# Altium footprint library Connector_PinHeader_1.27mm.PcbLib: 278 footprints (part 3 of 18)
Each footprint in its own frame and in the unit in brackets; x right, y up, seen from the top. Pads: shape width x height; smd on the part's side, far side on the other; paste and mask are expansions set on the pad; w line width, h text height; cw(c..) or ccw(c..) is an arc to the next point about the centre after c.
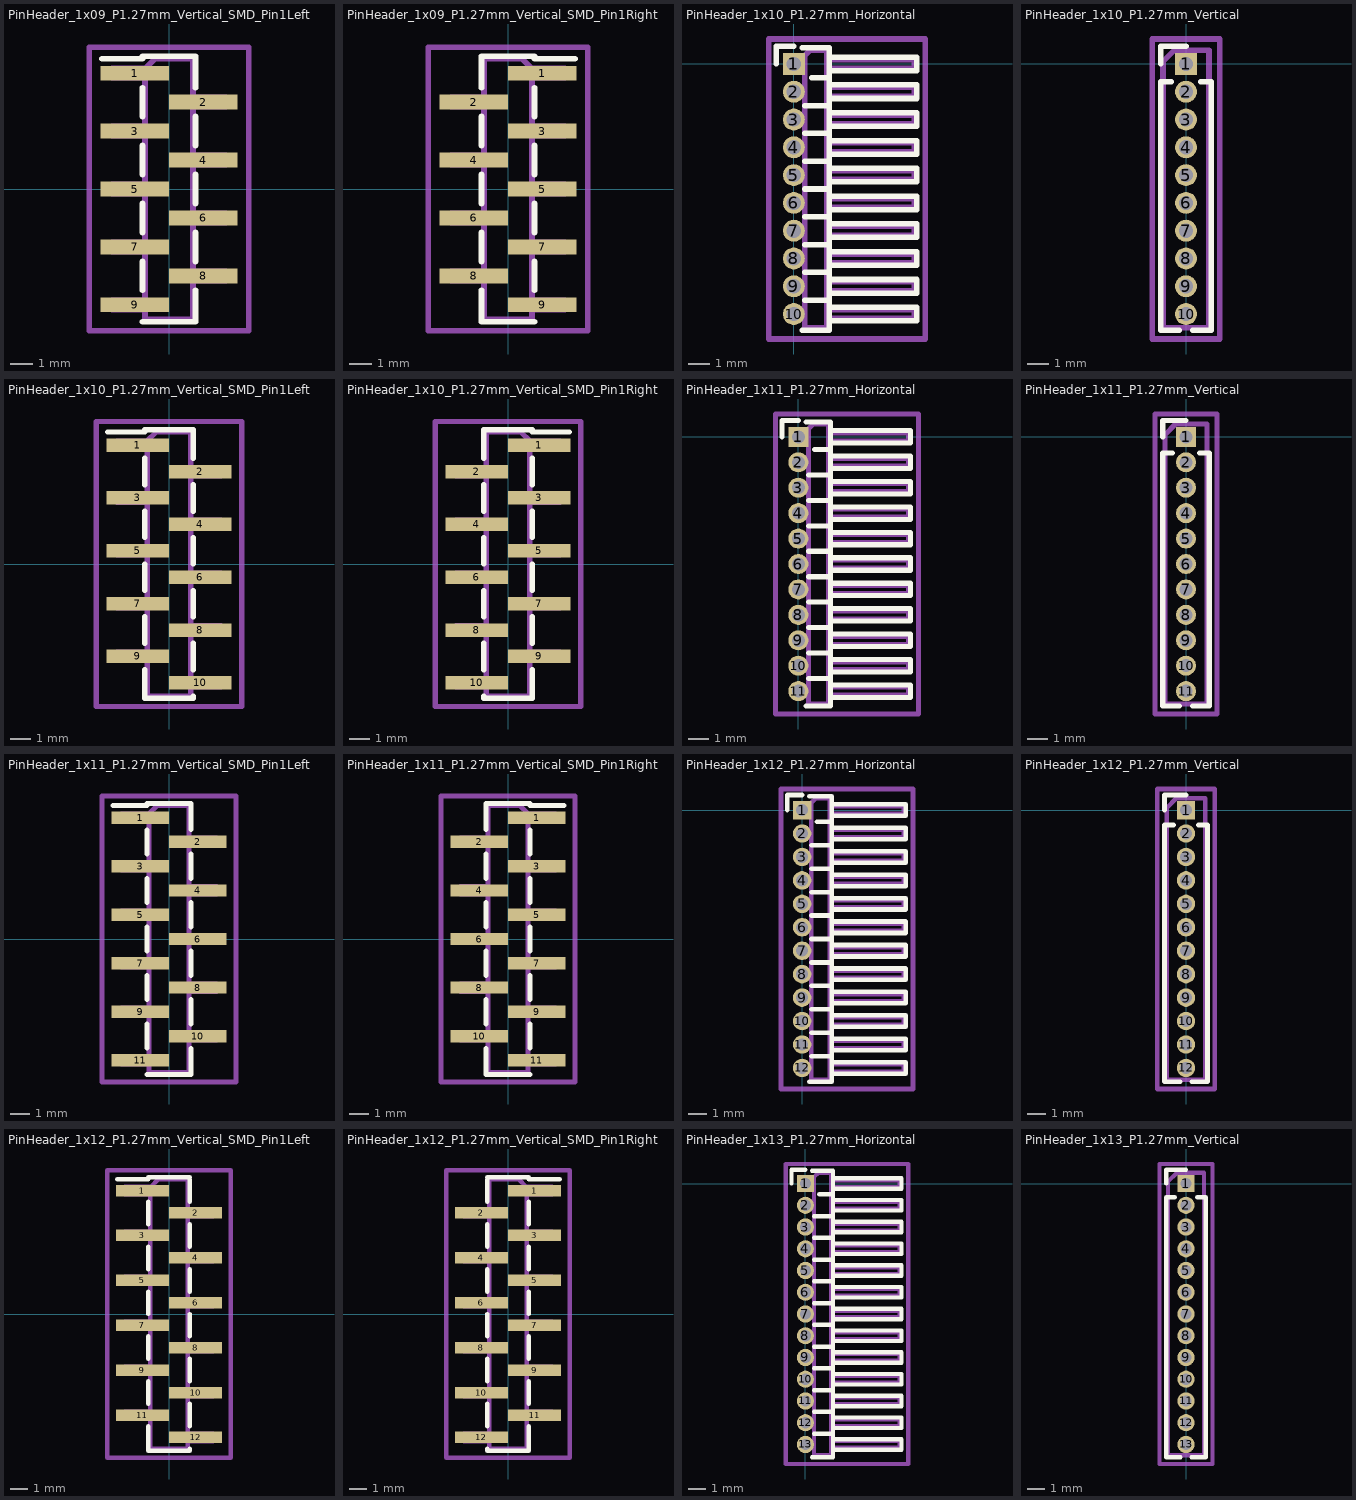
[diagram p2: the footprints below, top view; thin cyan lines are the x and y axes]

## PinHeader_1x09_P1.27mm_Vertical_SMD_Pin1Left [mm]
pads (9):
  rect 3x0.65 smd: 1(-1.5,5.08) 2(1.5,3.81) 3(-1.5,2.54) 4(1.5,1.27) 5(-1.5,0) 6(1.5,-1.27) 7(-1.5,-2.54) 8(1.5,-3.81) 9(-1.5,-5.08)
F.SilkS:
  lines w0.254: -2.94,5.715 -1.16,5.715 -1.16,5.825 1.16,5.825 ; -1.16,-5.825 1.16,-5.825 ; -1.16,-4.445 -1.16,-3.175 ; -1.16,-1.905 -1.16,-0.635 ; -1.16,0.635 -1.16,1.905 ; -1.16,3.175 -1.16,4.445 ; 1.16,-5.715 1.16,-5.825 ; 1.16,-4.445 1.16,-5.825 ; 1.16,-3.175 1.16,-1.905 ; 1.16,-0.635 1.16,0.635 ; 1.16,1.905 1.16,3.175 ; 1.16,4.445 1.16,5.715
Top Assembly:
  lines w0.254: -1.05,-5.28 -2.5,-5.28 -2.5,-4.88 -1.05,-4.88 ; -1.05,-2.74 -2.5,-2.74 -2.5,-2.34 -1.05,-2.34 ; -1.05,-0.2 -2.5,-0.2 -2.5,0.2 -1.05,0.2 ; -1.05,2.34 -2.5,2.34 -2.5,2.74 -1.05,2.74 ; -1.05,4.88 -2.5,4.88 -2.5,5.28 -1.05,5.28 ; 1.05,-4.01 2.5,-4.01 2.5,-3.61 1.05,-3.61 ; 1.05,-1.47 2.5,-1.47 2.5,-1.07 1.05,-1.07 ; 1.05,1.07 2.5,1.07 2.5,1.47 1.05,1.47 ; 1.05,3.61 2.5,3.61 2.5,4.01 1.05,4.01 ; -1.05,5.28 -1.05,-5.715 1.05,-5.715 1.05,5.715 -0.615,5.715 -1.05,5.28
  text "'.Designator'" at 0.84,-4.047 h1
Top Courtyard:
  lines w0.254: -3.5,-6.22 3.5,-6.22 3.5,6.22 -3.5,6.22 -3.5,-6.22
Top Designator:
  text ".Designator" at -7.618,-0.508 h1.52

## PinHeader_1x09_P1.27mm_Vertical_SMD_Pin1Right [mm]
pads (9):
  rect 3x0.65 smd: 1(1.5,5.08) 2(-1.5,3.81) 3(1.5,2.54) 4(-1.5,1.27) 5(1.5,0) 6(-1.5,-1.27) 7(1.5,-2.54) 8(-1.5,-3.81) 9(1.5,-5.08)
F.SilkS:
  lines w0.254: -1.16,-5.715 -1.16,-5.825 ; -1.16,-4.445 -1.16,-5.825 ; -1.16,-3.175 -1.16,-1.905 ; -1.16,-0.635 -1.16,0.635 ; -1.16,1.905 -1.16,3.175 ; -1.16,5.825 1.16,5.825 1.16,5.715 2.94,5.715 ; 1.16,-5.825 -1.16,-5.825 ; 1.16,-4.445 1.16,-3.175 ; 1.16,-1.905 1.16,-0.635 ; 1.16,0.635 1.16,1.905 ; 1.16,3.175 1.16,4.445 ; -1.16,4.445 -1.16,5.715 -1.16,4.445
Top Assembly:
  lines w0.254: -1.05,-4.01 -2.5,-4.01 -2.5,-3.61 -1.05,-3.61 ; -1.05,-1.47 -2.5,-1.47 -2.5,-1.07 -1.05,-1.07 ; -1.05,1.07 -2.5,1.07 -2.5,1.47 -1.05,1.47 ; -1.05,3.61 -2.5,3.61 -2.5,4.01 -1.05,4.01 ; 1.05,-5.28 2.5,-5.28 2.5,-4.88 1.05,-4.88 ; 1.05,-2.74 2.5,-2.74 2.5,-2.34 1.05,-2.34 ; 1.05,-0.2 2.5,-0.2 2.5,0.2 1.05,0.2 ; 1.05,2.34 2.5,2.34 2.5,2.74 1.05,2.74 ; 1.05,4.88 2.5,4.88 2.5,5.28 1.05,5.28 ; 1.05,5.28 1.05,-5.715 -1.05,-5.715 -1.05,5.715 0.615,5.715 1.05,5.28
  text "'.Designator'" at 0.84,-4.047 h1
Top Courtyard:
  lines w0.254: -3.5,-6.22 3.5,-6.22 3.5,6.22 -3.5,6.22 -3.5,-6.22
Top Designator:
  text ".Designator" at -7.618,-0.508 h1.52

## PinHeader_1x10_P1.27mm_Horizontal [mm]
pads (10):
  rect 1x1 hole 0.65: 1(0,0)
  round 1 hole 0.65: 2(0,-1.27) 3(0,-2.54) 4(0,-3.81) 5(0,-5.08) 6(0,-6.35) 7(0,-7.62) 8(0,-8.89) 9(0,-10.16) 10(0,-11.43)
F.SilkS:
  lines w0.254: -0.81,0 -0.81,0.81 0,0.81 ; 0.39,-12.175 1.61,-12.175 1.61,0.745 0.39,0.745 ; 0.503,-10.795 1.61,-10.795 ; 0.503,-9.525 1.61,-9.525 ; 0.503,-8.255 1.61,-8.255 ; 0.503,-6.985 1.61,-6.985 ; 0.503,-5.715 1.61,-5.715 ; 0.503,-4.445 1.61,-4.445 ; 0.503,-3.175 1.61,-3.175 ; 0.503,-1.905 1.61,-1.905 ; 0.81,-0.635 1.61,-0.635 ; 1.61,-11.74 5.61,-11.74 5.61,-11.12 1.61,-11.12 ; 1.61,-10.47 5.61,-10.47 5.61,-9.85 1.61,-9.85 ; 1.61,-9.2 5.61,-9.2 5.61,-8.58 1.61,-8.58 ; 1.61,-7.93 5.61,-7.93 5.61,-7.31 1.61,-7.31 ; 1.61,-6.66 5.61,-6.66 5.61,-6.04 1.61,-6.04 ; 1.61,-5.39 5.61,-5.39 5.61,-4.77 1.61,-4.77 ; 1.61,-4.12 5.61,-4.12 5.61,-3.5 1.61,-3.5 ; 1.61,-2.85 5.61,-2.85 5.61,-2.23 1.61,-2.23 ; 1.61,-1.58 5.61,-1.58 5.61,-0.96 1.61,-0.96 ; 1.61,-0.31 5.61,-0.31 5.61,0.31 1.61,0.31 1.61,-0.31
Top Assembly:
  lines w0.254: 0.5,-11.63 -0.2,-11.63 -0.2,-11.23 0.5,-11.23 ; 0.5,-10.36 -0.2,-10.36 -0.2,-9.96 0.5,-9.96 ; 0.5,-9.09 -0.2,-9.09 -0.2,-8.69 0.5,-8.69 ; 0.5,-7.82 -0.2,-7.82 -0.2,-7.42 0.5,-7.42 ; 0.5,-6.55 -0.2,-6.55 -0.2,-6.15 0.5,-6.15 ; 0.5,-5.28 -0.2,-5.28 -0.2,-4.88 0.5,-4.88 ; 0.5,-4.01 -0.2,-4.01 -0.2,-3.61 0.5,-3.61 ; 0.5,-2.74 -0.2,-2.74 -0.2,-2.34 0.5,-2.34 ; 0.5,-1.47 -0.2,-1.47 -0.2,-1.07 0.5,-1.07 ; 0.5,-0.2 -0.2,-0.2 -0.2,0.2 0.5,0.2 ; 1.5,-11.63 5.5,-11.63 5.5,-11.23 1.5,-11.23 ; 1.5,-10.36 5.5,-10.36 5.5,-9.96 1.5,-9.96 ; 1.5,-9.09 5.5,-9.09 5.5,-8.69 1.5,-8.69 ; 1.5,-7.82 5.5,-7.82 5.5,-7.42 1.5,-7.42 ; 1.5,-6.55 5.5,-6.55 5.5,-6.15 1.5,-6.15 ; 1.5,-5.28 5.5,-5.28 5.5,-4.88 1.5,-4.88 ; 1.5,-4.01 5.5,-4.01 5.5,-3.61 1.5,-3.61 ; 1.5,-2.74 5.5,-2.74 5.5,-2.34 1.5,-2.34 ; 1.5,-1.47 5.5,-1.47 5.5,-1.07 1.5,-1.07 ; 1.5,-0.2 5.5,-0.2 5.5,0.2 1.5,0.2 ; 0.5,-12.065 1.5,-12.065 1.5,0.635 0.75,0.635 0.5,0.385 0.5,-12.065
  text "'.Designator'" at 1.504,-8.143 h0.6
Top Courtyard:
  lines w0.254: -1.14,-12.57 6,-12.57 6,1.14 -1.14,1.14 -1.14,-12.57
Top Designator:
  text ".Designator" at -5.188,-6.223 h1.52

## PinHeader_1x10_P1.27mm_Vertical [mm]
pads (10):
  rect 1x1 hole 0.65: 1(0,0)
  round 1 hole 0.65: 2(0,-1.27) 3(0,-2.54) 4(0,-3.81) 5(0,-5.08) 6(0,-6.35) 7(0,-7.62) 8(0,-8.89) 9(0,-10.16) 10(0,-11.43)
F.SilkS:
  lines w0.254: -1.16,0 -1.16,0.81 0,0.81 ; -0.667,-0.81 -1.16,-0.81 -1.16,-12.175 -0.318,-12.175 ; 0.318,-12.175 1.16,-12.175 1.16,-0.81 0.667,-0.81
Top Assembly:
  lines w0.254: -1.05,-12.065 1.05,-12.065 1.05,0.635 -0.525,0.635 -1.05,0.11 -1.05,-12.065
  text "'.Designator'" at 0.84,-9.762 h1
Top Courtyard:
  lines w0.254: -1.55,-12.57 1.55,-12.57 1.55,1.14 -1.55,1.14 -1.55,-12.57
Top Designator:
  text ".Designator" at -7.618,-6.223 h1.52

## PinHeader_1x10_P1.27mm_Vertical_SMD_Pin1Left [mm]
pads (10):
  rect 3x0.65 smd: 1(-1.5,5.715) 2(1.5,4.445) 3(-1.5,3.175) 4(1.5,1.905) 5(-1.5,0.635) 6(1.5,-0.635) 7(-1.5,-1.905) 8(1.5,-3.175) 9(-1.5,-4.445) 10(1.5,-5.715)
F.SilkS:
  lines w0.254: -2.94,6.35 -1.16,6.35 -1.16,6.46 1.16,6.46 ; -1.16,-5.08 -1.16,-6.46 1.16,-6.46 1.16,-6.35 ; -1.16,-3.81 -1.16,-2.54 ; -1.16,-1.27 -1.16,0 ; -1.16,1.27 -1.16,2.54 ; -1.16,3.81 -1.16,5.08 ; 1.16,-5.08 1.16,-3.81 ; 1.16,-2.54 1.16,-1.27 ; 1.16,0 1.16,1.27 ; 1.16,2.54 1.16,3.81 ; 1.16,5.08 1.16,6.35
Top Assembly:
  lines w0.254: -1.05,-4.645 -2.5,-4.645 -2.5,-4.245 -1.05,-4.245 ; -1.05,-2.105 -2.5,-2.105 -2.5,-1.705 -1.05,-1.705 ; -1.05,0.435 -2.5,0.435 -2.5,0.835 -1.05,0.835 ; -1.05,2.975 -2.5,2.975 -2.5,3.375 -1.05,3.375 ; -1.05,5.515 -2.5,5.515 -2.5,5.915 -1.05,5.915 ; 1.05,-5.915 2.5,-5.915 2.5,-5.515 1.05,-5.515 ; 1.05,-3.375 2.5,-3.375 2.5,-2.975 1.05,-2.975 ; 1.05,-0.835 2.5,-0.835 2.5,-0.435 1.05,-0.435 ; 1.05,1.705 2.5,1.705 2.5,2.105 1.05,2.105 ; 1.05,4.245 2.5,4.245 2.5,4.645 1.05,4.645 ; -1.05,5.915 -1.05,-6.35 1.05,-6.35 1.05,6.35 -0.615,6.35 -1.05,5.915
  text "'.Designator'" at 0.84,-4.047 h1
Top Courtyard:
  lines w0.254: -3.5,-6.85 3.5,-6.85 3.5,6.85 -3.5,6.85 -3.5,-6.85
Top Designator:
  text ".Designator" at -7.618,-0.508 h1.52

## PinHeader_1x10_P1.27mm_Vertical_SMD_Pin1Right [mm]
pads (10):
  rect 3x0.65 smd: 1(1.5,5.715) 2(-1.5,4.445) 3(1.5,3.175) 4(-1.5,1.905) 5(1.5,0.635) 6(-1.5,-0.635) 7(1.5,-1.905) 8(-1.5,-3.175) 9(1.5,-4.445) 10(-1.5,-5.715)
F.SilkS:
  lines w0.254: -1.16,-6.35 -1.16,-6.46 1.16,-6.46 1.16,-5.08 ; -1.16,-5.08 -1.16,-3.81 ; -1.16,-2.54 -1.16,-1.27 ; -1.16,0 -1.16,1.27 ; -1.16,2.54 -1.16,3.81 ; -1.16,6.46 1.16,6.46 1.16,6.35 2.94,6.35 ; 1.16,-3.81 1.16,-2.54 ; 1.16,-1.27 1.16,0 ; 1.16,1.27 1.16,2.54 ; 1.16,3.81 1.16,5.08 ; -1.16,5.08 -1.16,6.35 -1.16,5.08
Top Assembly:
  lines w0.254: -1.05,-5.915 -2.5,-5.915 -2.5,-5.515 -1.05,-5.515 ; -1.05,-3.375 -2.5,-3.375 -2.5,-2.975 -1.05,-2.975 ; -1.05,-0.835 -2.5,-0.835 -2.5,-0.435 -1.05,-0.435 ; -1.05,1.705 -2.5,1.705 -2.5,2.105 -1.05,2.105 ; -1.05,4.245 -2.5,4.245 -2.5,4.645 -1.05,4.645 ; 1.05,-4.645 2.5,-4.645 2.5,-4.245 1.05,-4.245 ; 1.05,-2.105 2.5,-2.105 2.5,-1.705 1.05,-1.705 ; 1.05,0.435 2.5,0.435 2.5,0.835 1.05,0.835 ; 1.05,2.975 2.5,2.975 2.5,3.375 1.05,3.375 ; 1.05,5.515 2.5,5.515 2.5,5.915 1.05,5.915 ; 1.05,5.915 1.05,-6.35 -1.05,-6.35 -1.05,6.35 0.615,6.35 1.05,5.915
  text "'.Designator'" at 0.84,-4.047 h1
Top Courtyard:
  lines w0.254: -3.5,-6.85 3.5,-6.85 3.5,6.85 -3.5,6.85 -3.5,-6.85
Top Designator:
  text ".Designator" at -7.618,-0.508 h1.52

## PinHeader_1x11_P1.27mm_Horizontal [mm]
pads (11):
  rect 1x1 hole 0.65: 1(0,0)
  round 1 hole 0.65: 2(0,-1.27) 3(0,-2.54) 4(0,-3.81) 5(0,-5.08) 6(0,-6.35) 7(0,-7.62) 8(0,-8.89) 9(0,-10.16) 10(0,-11.43) 11(0,-12.7)
F.SilkS:
  lines w0.254: -0.81,0 -0.81,0.81 0,0.81 ; 0.39,-13.445 1.61,-13.445 1.61,0.745 0.39,0.745 ; 0.503,-12.065 1.61,-12.065 ; 0.503,-10.795 1.61,-10.795 ; 0.503,-9.525 1.61,-9.525 ; 0.503,-8.255 1.61,-8.255 ; 0.503,-6.985 1.61,-6.985 ; 0.503,-5.715 1.61,-5.715 ; 0.503,-4.445 1.61,-4.445 ; 0.503,-3.175 1.61,-3.175 ; 0.503,-1.905 1.61,-1.905 ; 0.81,-0.635 1.61,-0.635 ; 1.61,-13.01 5.61,-13.01 5.61,-12.39 1.61,-12.39 ; 1.61,-11.74 5.61,-11.74 5.61,-11.12 1.61,-11.12 ; 1.61,-10.47 5.61,-10.47 5.61,-9.85 1.61,-9.85 ; 1.61,-9.2 5.61,-9.2 5.61,-8.58 1.61,-8.58 ; 1.61,-7.93 5.61,-7.93 5.61,-7.31 1.61,-7.31 ; 1.61,-6.66 5.61,-6.66 5.61,-6.04 1.61,-6.04 ; 1.61,-5.39 5.61,-5.39 5.61,-4.77 1.61,-4.77 ; 1.61,-4.12 5.61,-4.12 5.61,-3.5 1.61,-3.5 ; 1.61,-2.85 5.61,-2.85 5.61,-2.23 1.61,-2.23 ; 1.61,-1.58 5.61,-1.58 5.61,-0.96 1.61,-0.96 ; 1.61,-0.31 5.61,-0.31 5.61,0.31 1.61,0.31 1.61,-0.31
Top Assembly:
  lines w0.254: 0.5,-12.9 -0.2,-12.9 -0.2,-12.5 0.5,-12.5 ; 0.5,-11.63 -0.2,-11.63 -0.2,-11.23 0.5,-11.23 ; 0.5,-10.36 -0.2,-10.36 -0.2,-9.96 0.5,-9.96 ; 0.5,-9.09 -0.2,-9.09 -0.2,-8.69 0.5,-8.69 ; 0.5,-7.82 -0.2,-7.82 -0.2,-7.42 0.5,-7.42 ; 0.5,-6.55 -0.2,-6.55 -0.2,-6.15 0.5,-6.15 ; 0.5,-5.28 -0.2,-5.28 -0.2,-4.88 0.5,-4.88 ; 0.5,-4.01 -0.2,-4.01 -0.2,-3.61 0.5,-3.61 ; 0.5,-2.74 -0.2,-2.74 -0.2,-2.34 0.5,-2.34 ; 0.5,-1.47 -0.2,-1.47 -0.2,-1.07 0.5,-1.07 ; 0.5,-0.2 -0.2,-0.2 -0.2,0.2 0.5,0.2 ; 1.5,-12.9 5.5,-12.9 5.5,-12.5 1.5,-12.5 ; 1.5,-11.63 5.5,-11.63 5.5,-11.23 1.5,-11.23 ; 1.5,-10.36 5.5,-10.36 5.5,-9.96 1.5,-9.96 ; 1.5,-9.09 5.5,-9.09 5.5,-8.69 1.5,-8.69 ; 1.5,-7.82 5.5,-7.82 5.5,-7.42 1.5,-7.42 ; 1.5,-6.55 5.5,-6.55 5.5,-6.15 1.5,-6.15 ; 1.5,-5.28 5.5,-5.28 5.5,-4.88 1.5,-4.88 ; 1.5,-4.01 5.5,-4.01 5.5,-3.61 1.5,-3.61 ; 1.5,-2.74 5.5,-2.74 5.5,-2.34 1.5,-2.34 ; 1.5,-1.47 5.5,-1.47 5.5,-1.07 1.5,-1.07 ; 1.5,-0.2 5.5,-0.2 5.5,0.2 1.5,0.2 ; 0.5,-13.335 1.5,-13.335 1.5,0.635 0.75,0.635 0.5,0.385 0.5,-13.335
  text "'.Designator'" at 1.504,-8.778 h0.6
Top Courtyard:
  lines w0.254: -1.14,-13.84 6,-13.84 6,1.14 -1.14,1.14 -1.14,-13.84
Top Designator:
  text ".Designator" at -5.188,-6.858 h1.52

## PinHeader_1x11_P1.27mm_Vertical [mm]
pads (11):
  rect 1x1 hole 0.65: 1(0,0)
  round 1 hole 0.65: 2(0,-1.27) 3(0,-2.54) 4(0,-3.81) 5(0,-5.08) 6(0,-6.35) 7(0,-7.62) 8(0,-8.89) 9(0,-10.16) 10(0,-11.43) 11(0,-12.7)
F.SilkS:
  lines w0.254: -1.16,0 -1.16,0.81 0,0.81 ; -0.667,-0.81 -1.16,-0.81 -1.16,-13.445 -0.318,-13.445 ; 0.318,-13.445 1.16,-13.445 1.16,-0.81 0.667,-0.81
Top Assembly:
  lines w0.254: -1.05,-13.335 1.05,-13.335 1.05,0.635 -0.525,0.635 -1.05,0.11 -1.05,-13.335
  text "'.Designator'" at 0.84,-10.397 h1
Top Courtyard:
  lines w0.254: -1.55,-13.84 1.55,-13.84 1.55,1.14 -1.55,1.14 -1.55,-13.84
Top Designator:
  text ".Designator" at -7.618,-6.858 h1.52

## PinHeader_1x11_P1.27mm_Vertical_SMD_Pin1Left [mm]
pads (11):
  rect 3x0.65 smd: 1(-1.5,6.35) 2(1.5,5.08) 3(-1.5,3.81) 4(1.5,2.54) 5(-1.5,1.27) 6(1.5,0) 7(-1.5,-1.27) 8(1.5,-2.54) 9(-1.5,-3.81) 10(1.5,-5.08) 11(-1.5,-6.35)
F.SilkS:
  lines w0.254: -2.94,6.985 -1.16,6.985 -1.16,7.095 1.16,7.095 ; -1.16,-7.095 1.16,-7.095 ; -1.16,-5.715 -1.16,-4.445 ; -1.16,-3.175 -1.16,-1.905 ; -1.16,-0.635 -1.16,0.635 ; -1.16,1.905 -1.16,3.175 ; -1.16,4.445 -1.16,5.715 ; 1.16,-6.985 1.16,-7.095 ; 1.16,-5.715 1.16,-7.095 ; 1.16,-4.445 1.16,-3.175 ; 1.16,-1.905 1.16,-0.635 ; 1.16,0.635 1.16,1.905 ; 1.16,3.175 1.16,4.445 ; 1.16,5.715 1.16,6.985
Top Assembly:
  lines w0.254: -1.05,-6.55 -2.5,-6.55 -2.5,-6.15 -1.05,-6.15 ; -1.05,-4.01 -2.5,-4.01 -2.5,-3.61 -1.05,-3.61 ; -1.05,-1.47 -2.5,-1.47 -2.5,-1.07 -1.05,-1.07 ; -1.05,1.07 -2.5,1.07 -2.5,1.47 -1.05,1.47 ; -1.05,3.61 -2.5,3.61 -2.5,4.01 -1.05,4.01 ; -1.05,6.15 -2.5,6.15 -2.5,6.55 -1.05,6.55 ; 1.05,-5.28 2.5,-5.28 2.5,-4.88 1.05,-4.88 ; 1.05,-2.74 2.5,-2.74 2.5,-2.34 1.05,-2.34 ; 1.05,-0.2 2.5,-0.2 2.5,0.2 1.05,0.2 ; 1.05,2.34 2.5,2.34 2.5,2.74 1.05,2.74 ; 1.05,4.88 2.5,4.88 2.5,5.28 1.05,5.28 ; -1.05,6.55 -1.05,-6.985 1.05,-6.985 1.05,6.985 -0.615,6.985 -1.05,6.55
  text "'.Designator'" at 0.84,-4.047 h1
Top Courtyard:
  lines w0.254: -3.5,-7.49 3.5,-7.49 3.5,7.49 -3.5,7.49 -3.5,-7.49
Top Designator:
  text ".Designator" at -7.618,-0.508 h1.52

## PinHeader_1x11_P1.27mm_Vertical_SMD_Pin1Right [mm]
pads (11):
  rect 3x0.65 smd: 1(1.5,6.35) 2(-1.5,5.08) 3(1.5,3.81) 4(-1.5,2.54) 5(1.5,1.27) 6(-1.5,0) 7(1.5,-1.27) 8(-1.5,-2.54) 9(1.5,-3.81) 10(-1.5,-5.08) 11(1.5,-6.35)
F.SilkS:
  lines w0.254: -1.16,-6.985 -1.16,-7.095 ; -1.16,-5.715 -1.16,-7.095 ; -1.16,-4.445 -1.16,-3.175 ; -1.16,-1.905 -1.16,-0.635 ; -1.16,0.635 -1.16,1.905 ; -1.16,3.175 -1.16,4.445 ; -1.16,7.095 1.16,7.095 1.16,6.985 2.94,6.985 ; 1.16,-7.095 -1.16,-7.095 ; 1.16,-5.715 1.16,-4.445 ; 1.16,-3.175 1.16,-1.905 ; 1.16,-0.635 1.16,0.635 ; 1.16,1.905 1.16,3.175 ; 1.16,4.445 1.16,5.715 ; -1.16,5.715 -1.16,6.985 -1.16,5.715
Top Assembly:
  lines w0.254: -1.05,-5.28 -2.5,-5.28 -2.5,-4.88 -1.05,-4.88 ; -1.05,-2.74 -2.5,-2.74 -2.5,-2.34 -1.05,-2.34 ; -1.05,-0.2 -2.5,-0.2 -2.5,0.2 -1.05,0.2 ; -1.05,2.34 -2.5,2.34 -2.5,2.74 -1.05,2.74 ; -1.05,4.88 -2.5,4.88 -2.5,5.28 -1.05,5.28 ; 1.05,-6.55 2.5,-6.55 2.5,-6.15 1.05,-6.15 ; 1.05,-4.01 2.5,-4.01 2.5,-3.61 1.05,-3.61 ; 1.05,-1.47 2.5,-1.47 2.5,-1.07 1.05,-1.07 ; 1.05,1.07 2.5,1.07 2.5,1.47 1.05,1.47 ; 1.05,3.61 2.5,3.61 2.5,4.01 1.05,4.01 ; 1.05,6.15 2.5,6.15 2.5,6.55 1.05,6.55 ; 1.05,6.55 1.05,-6.985 -1.05,-6.985 -1.05,6.985 0.615,6.985 1.05,6.55
  text "'.Designator'" at 0.84,-4.047 h1
Top Courtyard:
  lines w0.254: -3.5,-7.49 3.5,-7.49 3.5,7.49 -3.5,7.49 -3.5,-7.49
Top Designator:
  text ".Designator" at -7.618,-0.508 h1.52

## PinHeader_1x12_P1.27mm_Horizontal [mm]
pads (12):
  rect 1x1 hole 0.65: 1(0,0)
  round 1 hole 0.65: 2(0,-1.27) 3(0,-2.54) 4(0,-3.81) 5(0,-5.08) 6(0,-6.35) 7(0,-7.62) 8(0,-8.89) 9(0,-10.16) 10(0,-11.43) 11(0,-12.7) 12(0,-13.97)
F.SilkS:
  lines w0.254: -0.81,0 -0.81,0.81 0,0.81 ; 0.39,-14.715 1.61,-14.715 1.61,0.745 0.39,0.745 ; 0.503,-13.335 1.61,-13.335 ; 0.503,-12.065 1.61,-12.065 ; 0.503,-10.795 1.61,-10.795 ; 0.503,-9.525 1.61,-9.525 ; 0.503,-8.255 1.61,-8.255 ; 0.503,-6.985 1.61,-6.985 ; 0.503,-5.715 1.61,-5.715 ; 0.503,-4.445 1.61,-4.445 ; 0.503,-3.175 1.61,-3.175 ; 0.503,-1.905 1.61,-1.905 ; 0.81,-0.635 1.61,-0.635 ; 1.61,-14.28 5.61,-14.28 5.61,-13.66 1.61,-13.66 ; 1.61,-13.01 5.61,-13.01 5.61,-12.39 1.61,-12.39 ; 1.61,-11.74 5.61,-11.74 5.61,-11.12 1.61,-11.12 ; 1.61,-10.47 5.61,-10.47 5.61,-9.85 1.61,-9.85 ; 1.61,-9.2 5.61,-9.2 5.61,-8.58 1.61,-8.58 ; 1.61,-7.93 5.61,-7.93 5.61,-7.31 1.61,-7.31 ; 1.61,-6.66 5.61,-6.66 5.61,-6.04 1.61,-6.04 ; 1.61,-5.39 5.61,-5.39 5.61,-4.77 1.61,-4.77 ; 1.61,-4.12 5.61,-4.12 5.61,-3.5 1.61,-3.5 ; 1.61,-2.85 5.61,-2.85 5.61,-2.23 1.61,-2.23 ; 1.61,-1.58 5.61,-1.58 5.61,-0.96 1.61,-0.96 ; 1.61,-0.31 5.61,-0.31 5.61,0.31 1.61,0.31 1.61,-0.31
Top Assembly:
  lines w0.254: 0.5,-14.17 -0.2,-14.17 -0.2,-13.77 0.5,-13.77 ; 0.5,-12.9 -0.2,-12.9 -0.2,-12.5 0.5,-12.5 ; 0.5,-11.63 -0.2,-11.63 -0.2,-11.23 0.5,-11.23 ; 0.5,-10.36 -0.2,-10.36 -0.2,-9.96 0.5,-9.96 ; 0.5,-9.09 -0.2,-9.09 -0.2,-8.69 0.5,-8.69 ; 0.5,-7.82 -0.2,-7.82 -0.2,-7.42 0.5,-7.42 ; 0.5,-6.55 -0.2,-6.55 -0.2,-6.15 0.5,-6.15 ; 0.5,-5.28 -0.2,-5.28 -0.2,-4.88 0.5,-4.88 ; 0.5,-4.01 -0.2,-4.01 -0.2,-3.61 0.5,-3.61 ; 0.5,-2.74 -0.2,-2.74 -0.2,-2.34 0.5,-2.34 ; 0.5,-1.47 -0.2,-1.47 -0.2,-1.07 0.5,-1.07 ; 0.5,-0.2 -0.2,-0.2 -0.2,0.2 0.5,0.2 ; 1.5,-14.17 5.5,-14.17 5.5,-13.77 1.5,-13.77 ; 1.5,-12.9 5.5,-12.9 5.5,-12.5 1.5,-12.5 ; 1.5,-11.63 5.5,-11.63 5.5,-11.23 1.5,-11.23 ; 1.5,-10.36 5.5,-10.36 5.5,-9.96 1.5,-9.96 ; 1.5,-9.09 5.5,-9.09 5.5,-8.69 1.5,-8.69 ; 1.5,-7.82 5.5,-7.82 5.5,-7.42 1.5,-7.42 ; 1.5,-6.55 5.5,-6.55 5.5,-6.15 1.5,-6.15 ; 1.5,-5.28 5.5,-5.28 5.5,-4.88 1.5,-4.88 ; 1.5,-4.01 5.5,-4.01 5.5,-3.61 1.5,-3.61 ; 1.5,-2.74 5.5,-2.74 5.5,-2.34 1.5,-2.34 ; 1.5,-1.47 5.5,-1.47 5.5,-1.07 1.5,-1.07 ; 1.5,-0.2 5.5,-0.2 5.5,0.2 1.5,0.2 ; 0.5,-14.605 1.5,-14.605 1.5,0.635 0.75,0.635 0.5,0.385 0.5,-14.605
  text "'.Designator'" at 1.504,-9.413 h0.6
Top Courtyard:
  lines w0.254: -1.14,-15.11 6,-15.11 6,1.14 -1.14,1.14 -1.14,-15.11
Top Designator:
  text ".Designator" at -5.188,-7.493 h1.52

## PinHeader_1x12_P1.27mm_Vertical [mm]
pads (12):
  rect 1x1 hole 0.65: 1(0,0)
  round 1 hole 0.65: 2(0,-1.27) 3(0,-2.54) 4(0,-3.81) 5(0,-5.08) 6(0,-6.35) 7(0,-7.62) 8(0,-8.89) 9(0,-10.16) 10(0,-11.43) 11(0,-12.7) 12(0,-13.97)
F.SilkS:
  lines w0.254: -1.16,0 -1.16,0.81 0,0.81 ; -0.667,-0.81 -1.16,-0.81 -1.16,-14.715 -0.318,-14.715 ; 0.318,-14.715 1.16,-14.715 1.16,-0.81 0.667,-0.81
Top Assembly:
  lines w0.254: -1.05,-14.605 1.05,-14.605 1.05,0.635 -0.525,0.635 -1.05,0.11 -1.05,-14.605
  text "'.Designator'" at 0.84,-11.032 h1
Top Courtyard:
  lines w0.254: -1.55,-15.11 1.55,-15.11 1.55,1.14 -1.55,1.14 -1.55,-15.11
Top Designator:
  text ".Designator" at -7.618,-7.493 h1.52

## PinHeader_1x12_P1.27mm_Vertical_SMD_Pin1Left [mm]
pads (12):
  rect 3x0.65 smd: 1(-1.5,6.985) 2(1.5,5.715) 3(-1.5,4.445) 4(1.5,3.175) 5(-1.5,1.905) 6(1.5,0.635) 7(-1.5,-0.635) 8(1.5,-1.905) 9(-1.5,-3.175) 10(1.5,-4.445) 11(-1.5,-5.715) 12(1.5,-6.985)
F.SilkS:
  lines w0.254: -2.94,7.62 -1.16,7.62 -1.16,7.73 1.16,7.73 ; -1.16,-6.35 -1.16,-7.73 1.16,-7.73 1.16,-7.62 ; -1.16,-5.08 -1.16,-3.81 ; -1.16,-2.54 -1.16,-1.27 ; -1.16,0 -1.16,1.27 ; -1.16,2.54 -1.16,3.81 ; -1.16,5.08 -1.16,6.35 ; 1.16,-6.35 1.16,-5.08 ; 1.16,-3.81 1.16,-2.54 ; 1.16,-1.27 1.16,0 ; 1.16,1.27 1.16,2.54 ; 1.16,3.81 1.16,5.08 ; 1.16,6.35 1.16,7.62
Top Assembly:
  lines w0.254: -1.05,-5.915 -2.5,-5.915 -2.5,-5.515 -1.05,-5.515 ; -1.05,-3.375 -2.5,-3.375 -2.5,-2.975 -1.05,-2.975 ; -1.05,-0.835 -2.5,-0.835 -2.5,-0.435 -1.05,-0.435 ; -1.05,1.705 -2.5,1.705 -2.5,2.105 -1.05,2.105 ; -1.05,4.245 -2.5,4.245 -2.5,4.645 -1.05,4.645 ; -1.05,6.785 -2.5,6.785 -2.5,7.185 -1.05,7.185 ; 1.05,-7.185 2.5,-7.185 2.5,-6.785 1.05,-6.785 ; 1.05,-4.645 2.5,-4.645 2.5,-4.245 1.05,-4.245 ; 1.05,-2.105 2.5,-2.105 2.5,-1.705 1.05,-1.705 ; 1.05,0.435 2.5,0.435 2.5,0.835 1.05,0.835 ; 1.05,2.975 2.5,2.975 2.5,3.375 1.05,3.375 ; 1.05,5.515 2.5,5.515 2.5,5.915 1.05,5.915 ; -1.05,7.185 -1.05,-7.62 1.05,-7.62 1.05,7.62 -0.615,7.62 -1.05,7.185
  text "'.Designator'" at 0.84,-4.047 h1
Top Courtyard:
  lines w0.254: -3.5,-8.13 3.5,-8.13 3.5,8.13 -3.5,8.13 -3.5,-8.13
Top Designator:
  text ".Designator" at -7.618,-0.508 h1.52

## PinHeader_1x12_P1.27mm_Vertical_SMD_Pin1Right [mm]
pads (12):
  rect 3x0.65 smd: 1(1.5,6.985) 2(-1.5,5.715) 3(1.5,4.445) 4(-1.5,3.175) 5(1.5,1.905) 6(-1.5,0.635) 7(1.5,-0.635) 8(-1.5,-1.905) 9(1.5,-3.175) 10(-1.5,-4.445) 11(1.5,-5.715) 12(-1.5,-6.985)
F.SilkS:
  lines w0.254: -1.16,-7.62 -1.16,-7.73 1.16,-7.73 1.16,-6.35 ; -1.16,-6.35 -1.16,-5.08 ; -1.16,-3.81 -1.16,-2.54 ; -1.16,-1.27 -1.16,0 ; -1.16,1.27 -1.16,2.54 ; -1.16,3.81 -1.16,5.08 ; -1.16,7.73 1.16,7.73 1.16,7.62 2.94,7.62 ; 1.16,-5.08 1.16,-3.81 ; 1.16,-2.54 1.16,-1.27 ; 1.16,0 1.16,1.27 ; 1.16,2.54 1.16,3.81 ; 1.16,5.08 1.16,6.35 ; -1.16,6.35 -1.16,7.62 -1.16,6.35
Top Assembly:
  lines w0.254: -1.05,-7.185 -2.5,-7.185 -2.5,-6.785 -1.05,-6.785 ; -1.05,-4.645 -2.5,-4.645 -2.5,-4.245 -1.05,-4.245 ; -1.05,-2.105 -2.5,-2.105 -2.5,-1.705 -1.05,-1.705 ; -1.05,0.435 -2.5,0.435 -2.5,0.835 -1.05,0.835 ; -1.05,2.975 -2.5,2.975 -2.5,3.375 -1.05,3.375 ; -1.05,5.515 -2.5,5.515 -2.5,5.915 -1.05,5.915 ; 1.05,-5.915 2.5,-5.915 2.5,-5.515 1.05,-5.515 ; 1.05,-3.375 2.5,-3.375 2.5,-2.975 1.05,-2.975 ; 1.05,-0.835 2.5,-0.835 2.5,-0.435 1.05,-0.435 ; 1.05,1.705 2.5,1.705 2.5,2.105 1.05,2.105 ; 1.05,4.245 2.5,4.245 2.5,4.645 1.05,4.645 ; 1.05,6.785 2.5,6.785 2.5,7.185 1.05,7.185 ; 1.05,7.185 1.05,-7.62 -1.05,-7.62 -1.05,7.62 0.615,7.62 1.05,7.185
  text "'.Designator'" at 0.84,-4.047 h1
Top Courtyard:
  lines w0.254: -3.5,-8.13 3.5,-8.13 3.5,8.13 -3.5,8.13 -3.5,-8.13
Top Designator:
  text ".Designator" at -7.618,-0.508 h1.52

## PinHeader_1x13_P1.27mm_Horizontal [mm]
pads (13):
  rect 1x1 hole 0.65: 1(0,0)
  round 1 hole 0.65: 2(0,-1.27) 3(0,-2.54) 4(0,-3.81) 5(0,-5.08) 6(0,-6.35) 7(0,-7.62) 8(0,-8.89) 9(0,-10.16) 10(0,-11.43) 11(0,-12.7) 12(0,-13.97) 13(0,-15.24)
F.SilkS:
  lines w0.254: -0.81,0 -0.81,0.81 0,0.81 ; 0.39,-15.985 1.61,-15.985 1.61,0.745 0.39,0.745 ; 0.503,-14.605 1.61,-14.605 ; 0.503,-13.335 1.61,-13.335 ; 0.503,-12.065 1.61,-12.065 ; 0.503,-10.795 1.61,-10.795 ; 0.503,-9.525 1.61,-9.525 ; 0.503,-8.255 1.61,-8.255 ; 0.503,-6.985 1.61,-6.985 ; 0.503,-5.715 1.61,-5.715 ; 0.503,-4.445 1.61,-4.445 ; 0.503,-3.175 1.61,-3.175 ; 0.503,-1.905 1.61,-1.905 ; 0.81,-0.635 1.61,-0.635 ; 1.61,-15.55 5.61,-15.55 5.61,-14.93 1.61,-14.93 ; 1.61,-14.28 5.61,-14.28 5.61,-13.66 1.61,-13.66 ; 1.61,-13.01 5.61,-13.01 5.61,-12.39 1.61,-12.39 ; 1.61,-11.74 5.61,-11.74 5.61,-11.12 1.61,-11.12 ; 1.61,-10.47 5.61,-10.47 5.61,-9.85 1.61,-9.85 ; 1.61,-9.2 5.61,-9.2 5.61,-8.58 1.61,-8.58 ; 1.61,-7.93 5.61,-7.93 5.61,-7.31 1.61,-7.31 ; 1.61,-6.66 5.61,-6.66 5.61,-6.04 1.61,-6.04 ; 1.61,-5.39 5.61,-5.39 5.61,-4.77 1.61,-4.77 ; 1.61,-4.12 5.61,-4.12 5.61,-3.5 1.61,-3.5 ; 1.61,-2.85 5.61,-2.85 5.61,-2.23 1.61,-2.23 ; 1.61,-1.58 5.61,-1.58 5.61,-0.96 1.61,-0.96 ; 1.61,-0.31 5.61,-0.31 5.61,0.31 1.61,0.31 1.61,-0.31
Top Assembly:
  lines w0.254: 0.5,-15.44 -0.2,-15.44 -0.2,-15.04 0.5,-15.04 ; 0.5,-14.17 -0.2,-14.17 -0.2,-13.77 0.5,-13.77 ; 0.5,-12.9 -0.2,-12.9 -0.2,-12.5 0.5,-12.5 ; 0.5,-11.63 -0.2,-11.63 -0.2,-11.23 0.5,-11.23 ; 0.5,-10.36 -0.2,-10.36 -0.2,-9.96 0.5,-9.96 ; 0.5,-9.09 -0.2,-9.09 -0.2,-8.69 0.5,-8.69 ; 0.5,-7.82 -0.2,-7.82 -0.2,-7.42 0.5,-7.42 ; 0.5,-6.55 -0.2,-6.55 -0.2,-6.15 0.5,-6.15 ; 0.5,-5.28 -0.2,-5.28 -0.2,-4.88 0.5,-4.88 ; 0.5,-4.01 -0.2,-4.01 -0.2,-3.61 0.5,-3.61 ; 0.5,-2.74 -0.2,-2.74 -0.2,-2.34 0.5,-2.34 ; 0.5,-1.47 -0.2,-1.47 -0.2,-1.07 0.5,-1.07 ; 0.5,-0.2 -0.2,-0.2 -0.2,0.2 0.5,0.2 ; 1.5,-15.44 5.5,-15.44 5.5,-15.04 1.5,-15.04 ; 1.5,-14.17 5.5,-14.17 5.5,-13.77 1.5,-13.77 ; 1.5,-12.9 5.5,-12.9 5.5,-12.5 1.5,-12.5 ; 1.5,-11.63 5.5,-11.63 5.5,-11.23 1.5,-11.23 ; 1.5,-10.36 5.5,-10.36 5.5,-9.96 1.5,-9.96 ; 1.5,-9.09 5.5,-9.09 5.5,-8.69 1.5,-8.69 ; 1.5,-7.82 5.5,-7.82 5.5,-7.42 1.5,-7.42 ; 1.5,-6.55 5.5,-6.55 5.5,-6.15 1.5,-6.15 ; 1.5,-5.28 5.5,-5.28 5.5,-4.88 1.5,-4.88 ; 1.5,-4.01 5.5,-4.01 5.5,-3.61 1.5,-3.61 ; 1.5,-2.74 5.5,-2.74 5.5,-2.34 1.5,-2.34 ; 1.5,-1.47 5.5,-1.47 5.5,-1.07 1.5,-1.07 ; 1.5,-0.2 5.5,-0.2 5.5,0.2 1.5,0.2 ; 0.5,-15.875 1.5,-15.875 1.5,0.635 0.75,0.635 0.5,0.385 0.5,-15.875
  text "'.Designator'" at 1.504,-10.048 h0.6
Top Courtyard:
  lines w0.254: -1.14,-16.38 6,-16.38 6,1.14 -1.14,1.14 -1.14,-16.38
Top Designator:
  text ".Designator" at -5.188,-8.128 h1.52

## PinHeader_1x13_P1.27mm_Vertical [mm]
pads (13):
  rect 1x1 hole 0.65: 1(0,0)
  round 1 hole 0.65: 2(0,-1.27) 3(0,-2.54) 4(0,-3.81) 5(0,-5.08) 6(0,-6.35) 7(0,-7.62) 8(0,-8.89) 9(0,-10.16) 10(0,-11.43) 11(0,-12.7) 12(0,-13.97) 13(0,-15.24)
F.SilkS:
  lines w0.254: -1.16,0 -1.16,0.81 0,0.81 ; -0.667,-0.81 -1.16,-0.81 -1.16,-15.985 -0.318,-15.985 ; 0.318,-15.985 1.16,-15.985 1.16,-0.81 0.667,-0.81
Top Assembly:
  lines w0.254: -1.05,-15.875 1.05,-15.875 1.05,0.635 -0.525,0.635 -1.05,0.11 -1.05,-15.875
  text "'.Designator'" at 0.84,-11.667 h1
Top Courtyard:
  lines w0.254: -1.55,-16.38 1.55,-16.38 1.55,1.14 -1.55,1.14 -1.55,-16.38
Top Designator:
  text ".Designator" at -7.618,-8.128 h1.52